# EAGLE library part 615024149521 (library USB3IO)
WR-MJ_Modular Jack_Tab UP_8P8C_Assembly1x3 8P8C Tab UP_Pre-Assembly 1x3 <http://katalog.we-online.de/media/images/eican/Con_WR-MJ_Horizontal_Plastic_6150xx149521_pf2.jpg> Details see: http://katalog.we-online.de/en/em/615_0xx_149_521/615_024_149_521 Created 2014-12-18, aslant tao 2014 (C) Würth Elektronik
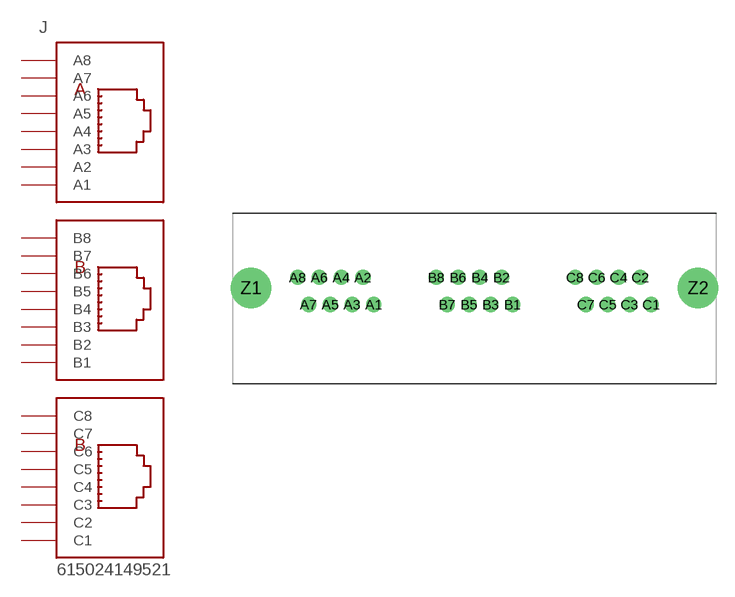
[diagram p167: symbol with the pads of 615024149521; footprint 615024149521]

Designator prefix J

## 615024149521  [615024149521]
A1  A1  pas
A2  A2  pas
A3  A3  pas
A4  A4  pas
A5  A5  pas
A6  A6  pas
A7  A7  pas
A8  A8  pas
B1  B1  pas
B2  B2  pas
B3  B3  pas
B4  B4  pas
B5  B5  pas
B6  B6  pas
B7  B7  pas
B8  B8  pas
C1  C1  pas
C2  C2  pas
C3  C3  pas
C4  C4  pas
C5  C5  pas
C6  C6  pas
C7  C7  pas
C8  C8  pas

## Footprint 615024149521 (pad centres in mm)
WR-MJ_Modular Jack_Tab UP_8P8C_Assembly1x3 8P8C Tab UP_Pre-Assembly 1x3
drill 0.9: A1 -9.425,-1.54; A2 -10.445,1; A3 -11.465,-1.54; A4 -12.485,1; A5 -13.505,-1.54; A6 -14.525,1; A7 -15.545,-1.54; A8 -16.565,1; B1 3.57,-1.54; B2 2.55,1; B3 1.53,-1.54; B4 0.51,1; B5 -0.51,-1.54; B6 -1.53,1; B7 -2.55,-1.54; B8 -3.57,1; C1 16.565,-1.54; C2 15.545,1; C3 14.525,-1.54; C4 13.505,1; C5 12.485,-1.54; C6 11.465,1; C7 10.445,-1.54; C8 9.425,1
drill 2.8: Z1 -20.945,0; Z2 20.945,0